# Altium schematic symbol library HW_ADHERENT_SYSCTRL_R1_L4.SchLib: 1634 symbols (part 3 of 31)
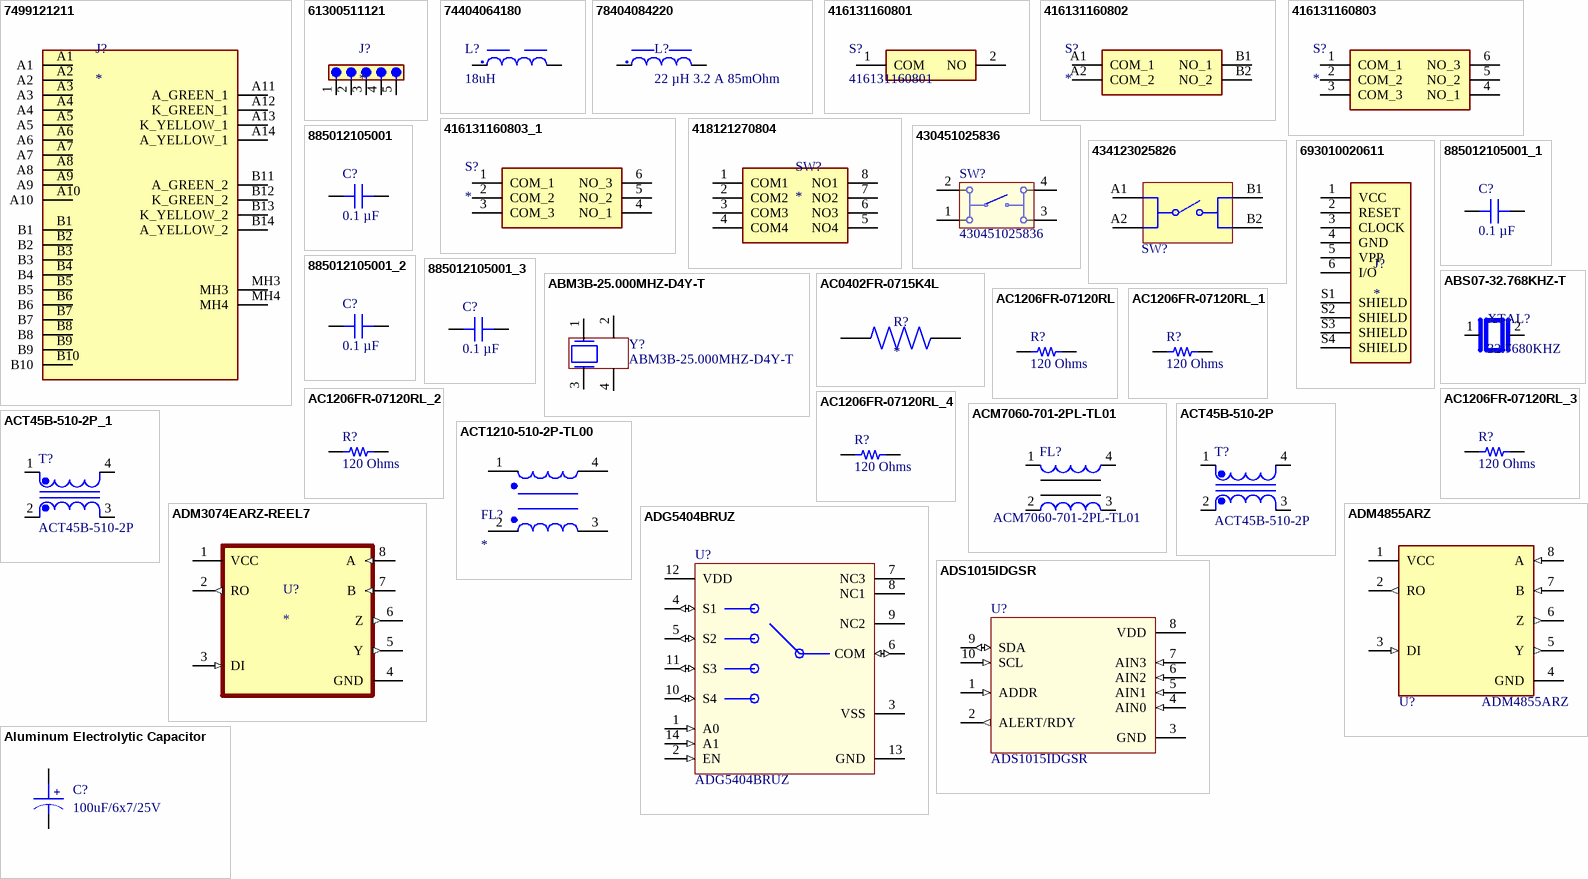
[diagram p52: symbols 7499121211 to Aluminum Electrolytic Capacitor]

## ADM3074EARZ-REEL7
designator U?
Single Transmitter/Receiver RS-422/RS-485 8-Pin SOIC N T/R; Manufacturer: Analog Devices; Manufacturer Part Number: ADM3074EARZ-REEL7; Data Rate: 500Kbps; Number of Receivers: 1; Operating Supply Voltage: 3.3V; Min Supply Voltage: 3V; Max Supply Voltage: 3.6V; Operating Supply Current: 1.5mA; Simplex/Duplex: Full Duplex; Receiver Hysteresis: 100mV; Supplier 1: Digikey; RoHS: Yes; Category: RS-232 / RS-422 / RS-485 Interface ICs; Stock 1: 725; Pricing 1: 1=5.83, 10=5.24, 25=4.954, 100=4.2935, 250=4.07332, 500=3.65498 (USD); Mount: Surface Mount; Case/Package: SOIC; Number of Pins: 8; Min Operating Temperature: -40°C; Max Operating Temperature: 125°C; Packaging: Tape and Reel; Package Quantity: 1000; Number of Transmitters: 1; Logic Function: Receiver; Number of Drivers: 1; Number of Transceivers: 1; Series: -; Supply Current: 1.5mA; Lead Free: Contains Lead; RoHS Compliant: Yes; ComponentLink1URL: http://www.mouser.com/ds/2/609/ADM3070E_3071E_3072E_3073E_3074E_3075E_3076E_3077E-878687.pdf?src-supplier=Mouser; ComponentLink1Description: http://www.mouser.com/ds/2/609/ADM3070E_3071E_3072E_3073E_3074E_3075E_3076E_3077E-878687.pdf?src-supplier=Mouser; ComponentLink2URL: http://components.arrow.com/part/dataview/43007547S8418233N2771?src-supplier=Arrow+Electronics; ComponentLink2Description: http://components.arrow.com/part/dataview/43007547S8418233N2771?src-supplier=Arrow+Electronics; ComponentLink3URL: http://www.analog.com/static/imported-files/data_sheets/ADM3070E_3071E_3072E_3073E_3074E_3075E_3076E_3077E_3078E.pdf?src-supplier=Avnet; ComponentLink3Description: http://www.analog.com/static/imported-files/data_sheets/ADM3070E_3071E_3072E_3073E_3074E_3075E_3076E_3077E_3078E.pdf?src-supplier=Avnet; ComponentLink4URL: http://www.analog.com/media/en/technical-documentation/data-sheets/ADM3070E_3071E_3072E_3073E_3074E_3075E_3076E_3077E_3078E.pdf?src-supplier=Digikey; ComponentLink4Description: http://www.analog.com/media/en/technical-documentation/data-sheets/ADM3070E_3071E_3072E_3073E_3074E_3075E_3076E_3077E_3078E.pdf?src-supplier=Digikey; Supplier Part Number 1: 505-ADM3074EARZ-REEL7CT-ND
footprint SOIC127P600X175-8N
pins: 1 VCC (power), 2 RO (out), 3 DI (in), 4 GND, 5 Y (out), 6 Z (out), 7 B (in), 8 A (in)

## ADM4855ARZ
designator U?, comment Manufacturer Part Number: ADM4855ARZ  (hidden comment: IC TRANSCEIVER FULL 1/1 8SOIC)
1/1 Transceiver Full RS422, RS485 8-SOIC
footprint Analog_Devices_R-8_IPC_B
pins: 1 VCC (power), 2 RO (out), 3 DI (in), 4 GND (power), 5 Y (out), 6 Z (out), 7 B (in), 8 A (in)

## ADS1015IDGSR
designator U?
IC ADC 12BIT SIGMA-DELTA 10VSSOP; Manufacturer: Texas Instruments; Manufacturer Part Number: ADS1015IDGSR; Supplier Part Number: 296-41185-1-ND
footprint VSSOP-10 (Footprint not found)
pins: 1 ADDR (in), 2 ALERT/RDY (out), 3 GND (power), 4 AIN0 (in), 5 AIN1 (in), 6 AIN2 (in), 7 AIN3 (in), 8 VDD (power), 9 SDA (io), 10 SCL (in)

## Aluminum Electrolytic Capacitor
designator C?, comment 100uF/6x7/25V
Aluminum Electrolytic Capacitor,100uF,+/-20%,25V 100mA,6.3X7.7mm,SMD,Lelon; Manufacturer P/N: VEJ101M1ETR-0607; Myir P/N: 20404.80024; PCB Footprint: CE6x6; Part Type: Aluminum Electrolytic Capacitor; Manufacturer: Lelon; Reserve Value: 100uF; Datasheet: VEJ.pdf
footprint E_SMT
footprint CE6x6
pins: 1 P, 2 N
text: +

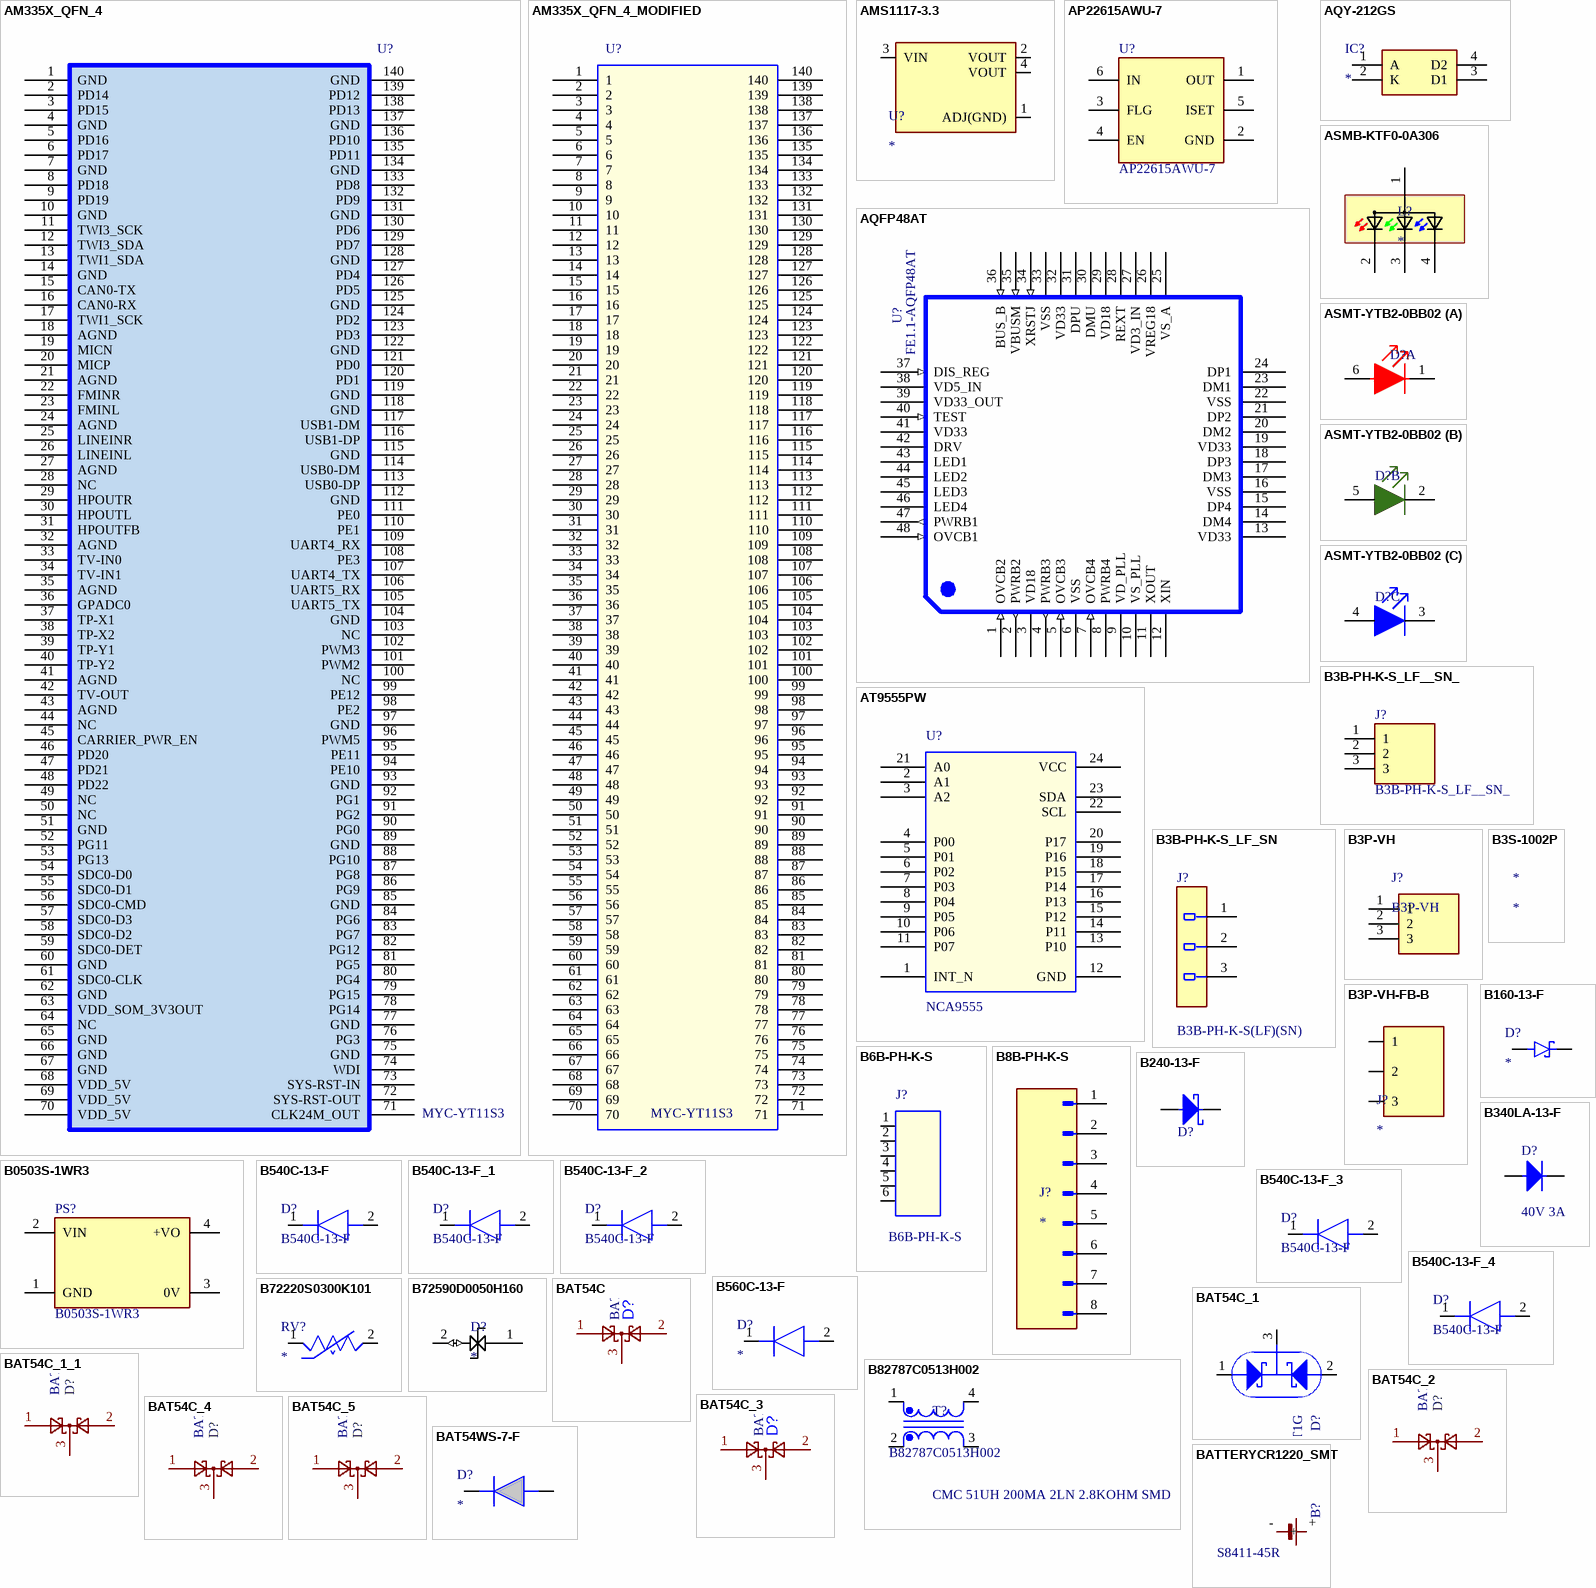
[diagram p4: symbols AM335X_QFN_4 to BATTERYCR1220_SMT]

## AM335X_QFN_4
designator U?, comment MYC-YT11S3
PCB Footprint: youpk37x39_1_00-smd-148
footprint youpk37x39_1_00-smd-148
pins: 1 GND, 2 PD14, 3 PD15, 4 GND, 5 PD16, 6 PD17, 7 GND, 8 PD18, 9 PD19, 10 GND, 11 TWI3_SCK, 12 TWI3_SDA, 13 TWI1_SDA, 14 GND, 15 CAN0-TX, 16 CAN0-RX, 17 TWI1_SCK, 18 AGND, 19 MICN, 20 MICP, 21 AGND, 22 FMINR, 23 FMINL, 24 AGND, 25 LINEINR, 26 LINEINL, 27 AGND, 28 NC, 29 HPOUTR, 30 HPOUTL, 31 HPOUTFB, 32 AGND, 33 TV-IN0, 34 TV-IN1, 35 AGND, 36 GPADC0, 37 TP-X1, 38 TP-X2, 39 TP-Y1, 40 TP-Y2, 41 AGND, 42 TV-OUT, 43 AGND, 44 NC, 45 CARRIER_PWR_EN, 46 PD20, 47 PD21, 48 PD22, 49 NC, 50 NC, 51 GND, 52 PG11, 53 PG13, 54 SDC0-D0, 55 SDC0-D1, 56 SDC0-CMD, 57 SDC0-D3, 58 SDC0-D2, 59 SDC0-DET, 60 GND, 61 SDC0-CLK, 62 GND, 63 VDD_SOM_3V3OUT, 64 NC, 65 GND, 66 GND, 67 GND, 68 VDD_5V, 69 VDD_5V, 70 VDD_5V, 71 CLK24M_OUT, 72 SYS-RST-OUT, 73 SYS-RST-IN, 74 WDI, 75 GND, 76 PG3, 77 GND, 78 PG14, 79 PG15, 80 PG4, 81 PG5, 82 PG12, 83 PG7, 84 PG6, 85 GND, 86 PG9, 87 PG8, 88 PG10, 89 GND, 90 PG0, 91 PG2, 92 PG1, 93 GND, 94 PE10, 95 PE11, 96 PWM5, 97 GND, 98 PE2, 99 PE12, 100 NC, 101 PWM2, 102 PWM3, 103 NC, 104 GND, 105 UART5_TX, 106 UART5_RX, 107 UART4_TX, 108 PE3, 109 UART4_RX, 110 PE1, 111 PE0, 112 GND, 113 USB0-DP, 114 USB0-DM, 115 GND, 116 USB1-DP, 117 USB1-DM, 118 GND, 119 GND, 120 PD1, 121 PD0, 122 GND, 123 PD3, 124 PD2, 125 GND, 126 PD5, 127 PD4, 128 GND, 129 PD7, 130 PD6, 131 GND, 132 PD9, 133 PD8, 134 GND, 135 PD11, 136 PD10, 137 GND, 138 PD13, 139 PD12, 140 GND

## AM335X_QFN_4_MODIFIED
designator U?, comment MYC-YT11S3
PCB Footprint: youpk37x39_1_00-smd-148
footprint youpk37x39_1_00-smd-148
pins: 1, 2, 3, 4, 5, 6, 7, 8, 9, 10, 11, 12, 13, 14, 15, 16, 17, 18, 19, 20, 21, 22, 23, 24, 25, 26, 27, 28, 29, 30, 31, 32, 33, 34, 35, 36, 37, 38, 39, 40, 41, 42, 43, 44, 45, 46, 47, 48, 49, 50, 51, 52, 53, 54, 55, 56, 57, 58, 59, 60, 61, 62, 63, 64, 65, 66, 67, 68, 69, 70, 71, 72, 73, 74, 75, 76, 77, 78, 79, 80, 81, 82, 83, 84, 85, 86, 87, 88, 89, 90, 91, 92, 93, 94, 95, 96, 97, 98, 99, 100, 101, 102, 103, 104, 105, 106, 107, 108, 109, 110, 111, 112, 113, 114, 115, 116, 117, 118, 119, 120, 121, 122, 123, 124, 125, 126, 127, 128, 129, 130, 131, 132, 133, 134, 135, 136, 137, 138, 139, 140

## AMS1117-3.3
designator U?
Linear Voltage Regulator IC Positive Fixed 1 Output 1A SOT-223-3L; Manufacturer: UMW; Supplier: C347222
footprint SOT-223-4_L6.5-W3.5-P2.30-LS7.0-BR
pins: 1 ADJ(GND), 2 VOUT, 3 VIN, 4 VOUT

## AP22615AWU-7
designator U?, comment Manufacturer Part Number: AP22615AWU-7  (hidden comment: IC PWR SWTCH N/P-CHAN 1:1 TSOT26)
Power Switch/Driver 1:1 N/P-Channel 3A TSOT-26; Order Code: Digi: AP22615AWU-7DITR-ND; LCSC Manufacturer Part Number: AP22615AWU-7; LCSC Part Number: C2680357
footprint SOT95P280X100-6N
pins: 1 OUT, 2 GND, 3 FLG, 4 EN, 5 ISET, 6 IN

## AQFP48AT
designator U?, comment FE1.1-AQFP48AT
IC,USB 2.0 HIGH SPEED 4-PORT HUB CONTROLLER,QFN48,SMD,Terminus; PCB Footprint: LQFP48; Myir P/N: 20107.00076; Datasheet: FE1.1-AQFP48AT.pdf; Reserve Value: FE1.1-AQFP48AT; Manufacturer P/N: FE1.1-AQFP48AT; Manufacturer: Terminus; Part Type: Interface
footprint QFP48
footprint LQFP48
pins: 1 OVCB2 (in), 2 PWRB2 (out), 3 VD18 (power), 4 PWRB3 (out), 5 OVCB3 (in), 6 VSS (power), 7 OVCB4 (in), 8 PWRB4, 9 VD_PLL (power), 10 VS_PLL (power), 11 XOUT, 12 XIN, 13 VD33 (power), 14 DM4, 15 DP4, 16 VSS (power), 17 DM3, 18 DP3, 19 VD33 (power), 20 DM2, 21 DP2, 22 VSS (power), 23 DM1, 24 DP1, 25 VS_A (power), 26 VREG18 (power), 27 VD3_IN (power), 28 REXT, 29 VD18 (power), 30 DMU, 31 DPU, 32 VD33 (power), 33 VSS (power), 34 XRSTJ (in), 35 VBUSM (in), 36 BUS_B (in), 37 DIS_REG (in), 38 VD5_IN (power), 39 VD33_OUT (power), 40 TEST (in), 41 VD33 (power), 42 DRV, 43 LED1, 44 LED2, 45 LED3, 46 LED4, 47 PWRB1 (out), 48 OVCB1 (in)

## AQY-212GS
designator IC?
Integrated Circuit; Manufacturer_Name: Panasonic; Manufacturer_Part_Number: AQY-212GS; Datasheet Link: https://www.arrow.com/en/products/aqy212gs/panasonic; Height: 2.3mm; Arrow Part Number: AQY-212GS; Arrow Price/Stock: https://www.arrow.com/en/products/aqy212gs/panasonic?utm_currency=USD&region=nac
footprint SOP254P680X230-4N
pins: 1 A, 2 K, 3 D1, 4 D2

## ASMB-KTF0-0A306
designator L?
Red, Green, Blue _RGB_ 620nm Red, 524nm Green, 471nm Blue LED Indication - Discrete 2V Red, 2.95V Green, 2.85V Blue 4-PLCC; MP: ASMB-KTF0-0A306; MF: Broadcom Limited; Availability: Unavailable; Price: None; Package: PLCC-4 Broadcom; Value: *; SnapEDA_Link: https://www.snapeda.com/parts/ASMB-KTF0-0A306/Broadcom%20Limited/view-part/2703546/?ref=snap
footprint LED_ASMB-KTF0-0A306
pins: 1 A, 2 CRED, 3 CGREEN, 4 CBLUE

## ASMT-YTB2-0BB02
designator D?, comment LED RGB CLEAR 6PLCC SMD  (value not drawn)
Red, Green, Blue (RGB) 622nm Red, 530nm Green, 470nm Blue LED Indication - Discrete 2.1V Red, 3.2V Green, 3.2V Blue 6-SMD, J-Lead; Manufacturer Part Number: ASMT-YTB2-0BB02; Order Code: DIGI: ASMT-YTB2-0BB02
footprint Broadcom_ASMT-YTB2-0BB02_0
part A pins: 1 BLUE C, 6 BLUE A
part B pins: 2 GREEN C, 5 GREEN A
part C pins: 3 RED C, 4 RED A

## AT9555PW
designator U?, comment NCA9555
IC,16-bit I2C-bus I/O port with interrupt,TSSOP24,Novosense; Myir P/N: 20703.80023; Part Type: Interface; Manufacturer: Novosense; Manufacturer P/N: NCA9555; Reserve Value: NCA9555; Datasheet: NCA9555.pdf; PCB Footprint: TSSOP24
footprint TSSOP24
pins: 1 INT_N, 2 A1, 3 A2, 4 P00, 5 P01, 6 P02, 7 P03, 8 P04, 9 P05, 10 P06, 11 P07, 12 GND, 13 P10, 14 P11, 15 P12, 16 P13, 17 P14, 18 P15, 19 P16, 20 P17, 21 A0, 22 SCL, 23 SDA, 24 VCC

## B3B-PH-K-S_LF__SN_
designator J?
Connector; Manufacturer_Name: JST (JAPAN SOLDERLESS TERMINALS); Manufacturer_Part_Number: B3B-PH-K-S(LF)(SN); Datasheet Link: http://www.jst-mfg.com/product/pdf/eng/ePH.pdf; Height: 6mm; LCSC Manufacturer Part Number: B3B-PH-K-S(LF)(SN); Arrow Part Number: B3B-PH-K-S(LF)(SN); Arrow Price/Stock: https://www.arrow.com/en/products/b3b-ph-k-s-lf-sn/jst-manufacturing; LCSC Part Number: C131339
footprint SHDR3W50P0X200_1X3_790X450X600P
pins: 1, 2, 3

## B3B-PH-K-S_LF_SN
designator J?  (value not drawn)
Manufacturer Part Number: B3B-PH-K-S(LF)(SN); Order Code: DIGI : 455-1705-ND; Part Number: B3B-PH-K-S(LF)(SN)
footprint JST_B3B-PH-K-S_LF_SN_0
pins: 1, 2, 3

## B3P-VH
designator J?
Description; Manufacturer_Name: JST; Type: Headers, Male Pins; Copyright: Copyright (C) 2025 Ultra Librarian. All rights reserved.; Manufacturer_Part_Number: B3P-VH; RefDes: RefDes
footprint CONN3X1_B3P-VH_JST
pins: 1, 2, 3

## B3P-VH-FB-B
designator J?
Connector Header Through Hole 3 position 0.156" (3.96mm)
footprint B3P-VH-FB-B
pins: 1, 2, 3

## B3S-1002P
designator *
Switch Tactile N.O. SPST Round Button Gull Wing 0.05A 24VDC 300000Cycles 2.26N SMD T/R; Manufacturer: Omron; Manufacturer Part Number: B3S-1002P; Number of Positions: 2NUMBER; Supplier 1: Digikey; RoHS: Yes; Category: Tactile Switches; Stock 1: 127000; Pricing 1: 1000=0.57994, 3000=0.52722, 5000=0.49207, 10000=0.45692 (USD); Contact Material: 150ConductorMaterial; Contact Plating: 159ConductorMaterial; Lead Free: 5697LeadFree; ComponentLink1URL: https://datasheet.ciiva.com/1701/490609-1701107.pdf?src-supplier=Newark; ComponentLink1Description: https://datasheet.ciiva.com/1701/490609-1701107.pdf?src-supplier=Newark; ComponentLink2URL: https://datasheet.ciiva.com/15198/getdatasheetpartid-174803-15198988.pdf?src-supplier=Verical; ComponentLink2Description: https://datasheet.ciiva.com/15198/getdatasheetpartid-174803-15198988.pdf?src-supplier=Verical; ComponentLink3URL: https://datasheet.ciiva.com/15198/getdatasheetpartid-388874-15198987.pdf?src-supplier=Verical; ComponentLink3Description: https://datasheet.ciiva.com/15198/getdatasheetpartid-388874-15198987.pdf?src-supplier=Verical; ComponentLink4URL: https://datasheet.ciiva.com/30228/en-b3s-30228152.pdf?src-supplier=Onlinecomponents.com; ComponentLink4Description: https://datasheet.ciiva.com/30228/en-b3s-30228152.pdf?src-supplier=Onlinecomponents.com; ComponentLink5URL: https://datasheet.ciiva.com/2899/b3s-1110-2899956.pdf?src-supplier=Digikey; ComponentLink5Description: https://datasheet.ciiva.com/2899/b3s-1110-2899956.pdf?src-supplier=Digikey; ComponentLink6URL: https://datasheet.ciiva.com/2899/b3s-1110-2899957.pdf?src-supplier=Digikey; ComponentLink6Description: https://datasheet.ciiva.com/2899/b3s-1110-2899957.pdf?src-supplier=Digikey; ComponentLink7URL: https://datasheet.ciiva.com/2899/b3s-1110-2899958.pdf?src-supplier=Digikey; ComponentLink7Description: https://datasheet.ciiva.com/2899/b3s-1110-2899958.pdf?src-supplier=Digikey; Supplier Part Number 1: SW837TR-ND

## B6B-PH-K-S
designator J?
Connector,Straight,Top type 6Pin 2.0mm Pitch H=6mm,DIP,JST; PCB Footprint: CONN-B6B-PH-K-S; Myir P/N: 21122.00013; Datasheet: B6B-PH-K-S.pdf; Reserve Value: B6B-PH-K-S; Manufacturer P/N: B6B-PH-K-S; Manufacturer: JST; Part Type: Connector
footprint B6B-PH-K-S
footprint CONN-B6B-PH-K-S
pins: 1, 2, 3, 4, 5, 6

## B8B-PH-K-S
designator J?
2.0 mm pitch/Disconnectable Crimp style connectors; MF: JST; MP: B8B-PH-K-S; SnapEDA_Link: https://www.snapeda.com/parts/B8B-PH-K-S/JST/view-part/?ref=snap; Package: None; Value: *; Check_prices: https://www.snapeda.com/parts/B8B-PH-K-S/JST/view-part/?ref=eda
footprint JST_B8B-PH-K-S
pins: 1, 2, 3, 4, 5, 6, 7, 8

## B160-13-F
designator D?
Diode 60 V 1A Surface Mount SMA; MPN: B160-13-F; Supplier: Digi; B160-FDIDKR-ND
footprint DIODE_B160-13-F
pins: 1 C, 2 A

## B240-13-F
designator D?, comment 40V 2A  (value not drawn)
Diode 40 V 2A Surface Mount SMB; Manufacturer Part Number: B240-13-F; Manufacturer: Diodes Incorporated
footprint Diodes_Inc._SMB_MFG
pins: 1 C, 2 A

## B340LA-13-F
designator D?, comment Rated: 40V 3A  (hidden comment: DIODE SCHOTTKY 40V 3A SMA)
Diode 40 V 3A Surface Mount SMA; Manufacturer Part Number: B340LA-13-F
footprint Diodes_SMA_0
pins: 1 C, 2 A

## B0503S-1WR3
designator PS?
Isolated Module DC DC Converter 1 Output 3.3V 303mA 4.5V - 5.5V Input; Manufacturer_Name: Mornsun Power; Height: 10.41mm; Manufacturer Part Number: B0503S-1WR3
footprint B0503S1WR3
pins: 1 GND, 2 VIN, 3 0V, 4 +VO

## B540C-13-F
designator D?
Manufacturer_Name: Diodes Incorporated; Datasheet Link: https://componentsearchengine.com/Datasheets/2/B540C-13-F.pdf; Height: 2.5mm; Manufacturer_Part_Number: B540C-13-F; Mouser Part Number: 621-B540C-F; Mouser Price/Stock: https://www.mouser.co.uk/ProductDetail/Diodes-Incorporated/B540C-13-F?qs=v2dnQLbuoRZXHN%2FK4ft5%252Bg%3D%3D; Arrow Part Number: B540C-13-F; Arrow Price/Stock: https://www.arrow.com/en/products/b540c-13-f/diodes-incorporated?region=nac
footprint DIOM7959X250N
pins: 1 K, 2 A

## B540C-13-F_1
designator D?, comment B540C-13-F
Manufacturer_Name: Diodes Incorporated; Datasheet Link: https://componentsearchengine.com/Datasheets/2/B540C-13-F.pdf; Height: 2.5mm; Manufacturer_Part_Number: B540C-13-F; Mouser Part Number: 621-B540C-F; Mouser Price/Stock: https://www.mouser.co.uk/ProductDetail/Diodes-Incorporated/B540C-13-F?qs=v2dnQLbuoRZXHN%2FK4ft5%252Bg%3D%3D; Arrow Part Number: B540C-13-F; Arrow Price/Stock: https://www.arrow.com/en/products/b540c-13-f/diodes-incorporated?region=nac
footprint DIOM7959X250N
pins: 1 K, 2 A

## B540C-13-F_2
designator D?, comment B540C-13-F
Manufacturer_Name: Diodes Incorporated; Datasheet Link: https://componentsearchengine.com/Datasheets/2/B540C-13-F.pdf; Height: 2.5mm; Manufacturer_Part_Number: B540C-13-F; Mouser Part Number: 621-B540C-F; Mouser Price/Stock: https://www.mouser.co.uk/ProductDetail/Diodes-Incorporated/B540C-13-F?qs=v2dnQLbuoRZXHN%2FK4ft5%252Bg%3D%3D; Arrow Part Number: B540C-13-F; Arrow Price/Stock: https://www.arrow.com/en/products/b540c-13-f/diodes-incorporated?region=nac
footprint DIOM7959X250N
pins: 1 K, 2 A

## B540C-13-F_3
designator D?, comment B540C-13-F
Manufacturer_Name: Diodes Incorporated; Datasheet Link: https://componentsearchengine.com/Datasheets/2/B540C-13-F.pdf; Height: 2.5mm; Manufacturer_Part_Number: B540C-13-F; Mouser Part Number: 621-B540C-F; Mouser Price/Stock: https://www.mouser.co.uk/ProductDetail/Diodes-Incorporated/B540C-13-F?qs=v2dnQLbuoRZXHN%2FK4ft5%252Bg%3D%3D; Arrow Part Number: B540C-13-F; Arrow Price/Stock: https://www.arrow.com/en/products/b540c-13-f/diodes-incorporated?region=nac
footprint DIOM7959X250N
pins: 1 K, 2 A

## B540C-13-F_4
designator D?, comment B540C-13-F
Manufacturer_Name: Diodes Incorporated; Datasheet Link: https://componentsearchengine.com/Datasheets/2/B540C-13-F.pdf; Height: 2.5mm; Manufacturer_Part_Number: B540C-13-F; Mouser Part Number: 621-B540C-F; Mouser Price/Stock: https://www.mouser.co.uk/ProductDetail/Diodes-Incorporated/B540C-13-F?qs=v2dnQLbuoRZXHN%2FK4ft5%252Bg%3D%3D; Arrow Part Number: B540C-13-F; Arrow Price/Stock: https://www.arrow.com/en/products/b540c-13-f/diodes-incorporated?region=nac
footprint DIOM7959X250N
pins: 1 K, 2 A

## B560C-13-F
designator D?
Diode 60 V 5A Surface Mount SMC; Manufacturer_Name: Diodes Incorporated; Manufacturer_Part_Number: B560C-13-F; Datasheet Link: https://datasheet.lcsc.com/szlcsc/Diodes-Incorporated-B560C-13-F_C85100.pdf; Height: 2.5mm; Mouser Part Number: 621-B560C-F; Mouser Price/Stock: https://www.mouser.co.uk/ProductDetail/Diodes-Incorporated/B560C-13-F?qs=OC0R%252Bhozcm%252BAsjMXklZLIw%3D%3D; Arrow Part Number: B560C-13-F; Arrow Price/Stock: https://www.arrow.com/en/products/b560c-13-f/diodes-incorporated?utm_currency=USD&region=nac
footprint DIOM7959X250N
pins: 1 K, 2 A

## B72220S0300K101
designator RV?
47 V 2 kA Varistor 1 Circuit Through Hole Disc 20mm; MPN: B72220S0300K101; Manufacturer: TDK
footprint VAR_B72220S0300K101
pins: 1, 2

## B72590D0050H160
designator D?
VARISTOR 150V 0402; Manufacturer: TDK EPCOS; Manufacturer Part Number: B72590D0050H160; Supplier 1: Digikey; RoHS: Yes; Category: Varistors; Stock 1: 130000; Pricing 1: 10000=0,04977, 30000=0,04666, 50000=0,04137, 100000=0,04044, 250000=0,03982 (USD); ComponentLink1URL: https://datasheet.octopart.com/B72590D0050H160-EPCOS-datasheet-10468447.pdf?src-supplier=Newark; ComponentLink1Description: https://datasheet.octopart.com/B72590D0050H160-EPCOS-datasheet-10468447.pdf?src-supplier=Newark; ComponentLink2URL: https://en.tdk.eu/inf/75/ds/High_speed_series.pdf?src-supplier=Verical; ComponentLink2Description: https://en.tdk.eu/inf/75/ds/High_speed_series.pdf?src-supplier=Verical; ComponentLink3URL: http://www.farnell.com/datasheets/1706828.pdf?src-supplier=Newark; ComponentLink3Description: http://www.farnell.com/datasheets/1706828.pdf?src-supplier=Newark; ComponentLink4URL: https://en.tdk.eu/inf/75/ds/High_speed_series.pdf?src-supplier=Digikey; ComponentLink4Description: https://en.tdk.eu/inf/75/ds/High_speed_series.pdf?src-supplier=Digikey; ComponentLink5URL: https://www.tdk-electronics.tdk.com/inf/75/ds/High_speed_series.pdf?src-supplier=Digikey; ComponentLink5Description: https://www.tdk-electronics.tdk.com/inf/75/ds/High_speed_series.pdf?src-supplier=Digikey; ComponentLink6URL: https://en.tdk.eu/inf/75/ds/High_speed_series.pdf?src-supplier=Arrow+Electronics; ComponentLink6Description: https://en.tdk.eu/inf/75/ds/High_speed_series.pdf?src-supplier=Arrow+Electronics; ComponentLink7URL: https://en.tdk.eu/inf/75/ds/High_speed_series.pdf?src-supplier=Quest; ComponentLink7Description: https://en.tdk.eu/inf/75/ds/High_speed_series.pdf?src-supplier=Quest; ComponentLink8URL: https://datasheet.octopart.com/B72590D0050H160-EPCOS-datasheet-157245974.pdf?src-supplier=LKR; ComponentLink8Description: https://datasheet.octopart.com/B72590D0050H160-EPCOS-datasheet-157245974.pdf?src-supplier=LKR; ComponentLink9URL: https://en.tdk.eu/inf/75/ds/High_speed_series.pdf?src-supplier=TTI; ComponentLink9Description: https://en.tdk.eu/inf/75/ds/High_speed_series.pdf?src-supplier=TTI; Supplier Part Number 1: 495-3684-2-ND
footprint SOD1005X60N
pins: 1 GND, 2 I/OLINE (io)

## B82787C0513H002
designator T?, comment CMC 51UH 200MA 2LN 2.8KOHM SMD  Manufacturer Part Number: B82787C0513H002
51 µH @ 100 kHz 2 Line Common Mode Choke Surface Mount 2.8 kOhms @ 10 MHz 200mA DCR 1Ohm; Order Code: DIGI: 495-4597-2-ND
footprint EPCOS_COMMON_MODE_CHOKE
pins: 1, 2, 3, 4

## BAT54C
designator D?, comment BAT54C-7-F
DIODE ARRAY SCHOTTKY 30V SOT23-3; Manufacturer: Diodes Incorporated; Value: BAT54C-7-F; Footprint: Package_TO_SOT_SMD:SOT-23; Manufacturer Part Number: BAT54C-7-F; Supplier Part Number: BAT54C-FDICT-ND
footprint SOT23-3
pins: 1, 2, 3

## BAT54C_1
designator D?, comment LBAT54CLT1G
Diode Dual Schottky,30V,200mA,SMD,SOT-23,LRC; Myir P/N: 20701.00054; PCB Footprint: SOT-23; Part Type: Diode; Manufacturer: LRC; Manufacturer P/N: LBAT54CLT1G; Reserve Value: LBAT54CLT1G; Datasheet: LBAT54CLT1G.pdf
footprint SOT23T02
footprint SOT-23
pins: 1 ANODE, 2 NC, 3 CATHODE

## BAT54C_1_1
designator D?, comment BAT54C-7-F
DIODE ARRAY SCHOTTKY 30V SOT23-3; Manufacturer: Diodes Incorporated; Footprint: Package_TO_SOT_SMD:SOT-23; Manufacturer Part Number: BAT54C-7-F; Supplier Part Number: BAT54C-FDICT-ND; Value: BAT54C-7-F
footprint SOT23-3
pins: 1, 2, 3

## BAT54C_2
designator D?, comment BAT54C-7-F
DIODE ARRAY SCHOTTKY 30V SOT23-3; Manufacturer: Diodes Incorporated; Value: BAT54C-7-F; Footprint: Package_TO_SOT_SMD:SOT-23; Manufacturer Part Number: BAT54C-7-F; Supplier Part Number: BAT54C-FDICT-ND
footprint SOT23-3
pins: 1, 2, 3

## BAT54C_3
designator D?, comment BAT54C-7-F
DIODE ARRAY SCHOTTKY 30V SOT23-3; Manufacturer: Diodes Incorporated; Value: BAT54C-7-F; Footprint: Package_TO_SOT_SMD:SOT-23; Manufacturer Part Number: BAT54C-7-F; Supplier Part Number: BAT54C-FDICT-ND
footprint SOT23-3
pins: 1, 2, 3

## BAT54C_4
designator D?, comment BAT54C-7-F
DIODE ARRAY SCHOTTKY 30V SOT23-3; Manufacturer: Diodes Incorporated; Value: BAT54C-7-F; Footprint: Package_TO_SOT_SMD:SOT-23; Manufacturer Part Number: BAT54C-7-F; Supplier Part Number: BAT54C-FDICT-ND
footprint SOT23-3
pins: 1, 2, 3

## BAT54C_5
designator D?, comment BAT54C-7-F
DIODE ARRAY SCHOTTKY 30V SOT23-3; Manufacturer: Diodes Incorporated; Value: BAT54C-7-F; Footprint: Package_TO_SOT_SMD:SOT-23; Manufacturer Part Number: BAT54C-7-F; Supplier Part Number: BAT54C-FDICT-ND
footprint SOT23-3
pins: 1, 2, 3

## BAT54WS-7-F
designator D?
Diode 30 V 100mA Surface Mount SOD-323; MPN: BAT54WS-7-F; Supplier: C124205
footprint SOD2513X120N
pins: 1 K, 2 A

## BATTERYCR1220_SMT
designator B?, comment S8411-45R
BATT HOLDER COIN 12MM 1 CELL SMD; Manufacturer: Harwin Inc.; Value: S8411-45R; Manufacturer Part Number: S8411-45R; Supplier Part Number: 952-1745-1-ND
footprint BATT_S8411-45R (S8411-45R)
pins: +, -

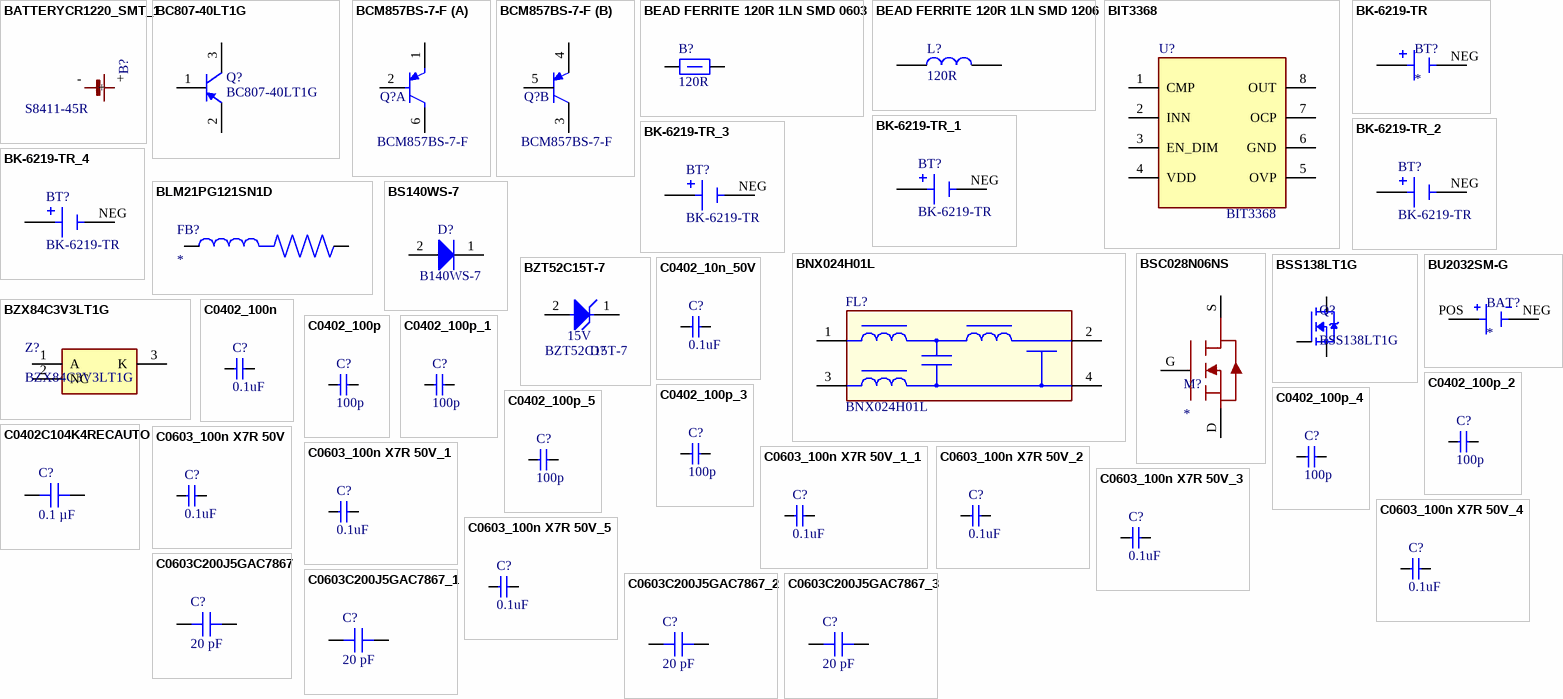
[diagram p5: symbols BATTERYCR1220_SMT_1 to C0603C200J5GAC7867_3]

## BATTERYCR1220_SMT_1
designator B?, comment S8411-45R
BATT HOLDER COIN 12MM 1 CELL SMD; Manufacturer: Harwin Inc.; Value: S8411-45R; Manufacturer Part Number: S8411-45R
footprint BATT_S8411-45R (S8411-45R)
pins: +, -

## BC807-40LT1G
designator Q?
General Purpose Transistor, PNP Silicon, 3-Pin SOT-23, Pb-Free, Tape and Reel; Manufacturer: ON Semiconductor; Max Power Dissipation: 300mW; hFE Min: 250; Number of Elements: 1; Collector Emitter Voltage (VCEO): 45V; Frequency: 100MHz; Emitter Base Voltage (VEBO): 5V; Max Collector Current: 500mA; Collector Base Voltage (VCBO): 50V; Collector Emitter Saturation Voltage: -700mV; Element Configuration: Single; Collector-emitter Voltage-Max: 700mV; ComponentLink3URL: http://www.onsemi.cn/pub_link/Collateral/318-08.PDF; ComponentLink1URL: http://www.onsemi.com/; ComponentLink2URL: http://www.onsemi.com/pub_link/Collateral/BC807-16LT1-D.PDF; ComponentLink1Description: Manufacturer URL; ComponentLink3Description: Package Specification; ComponentLink2Description: Datasheet; Supplier 1: Digi-Key; Supplier Part Number 1: BC807-40LT1GOSCT-ND; Manufacturer Part Number: BC807-40LT1G; RoHS: Yes; Category: BJTs; Pricing 1: 1=0,21000, 10=0,19600, 100=0,10690, 500=0,06576, 1000=0,04484 (USD); Case/Package: SOT-23-3; Number of Pins: 3; Contact Plating: Tin,Matte; Min Operating Temperature: -55°C; Max Operating Temperature: 150°C; Package Quantity: 1; Packaging: Tape and Reel; Polarity: PNP; Transition Frequency: 100MHz; Collector Emitter Breakdown Voltage: 45V; Power Dissipation: 300mW; Gain Bandwidth Product: 100MHz; Series: BC807-40L; Max Breakdown Voltage: 45V; Max Frequency: 100MHz; Length: 2.9mm; Width: 1.3mm; Height: 0.94mm; Radiation Hardening: No; Lead Free: Lead Free; Halogen Free: Halogen Free; RoHS Compliant: Yes; REACH SVHC: No SVHC; ComponentLink4URL: https://datasheet.ciiva.com/15138/getdatasheetpartid-38541-15138619.pdf?src-supplier=Verical; ComponentLink4Description: https://datasheet.ciiva.com/15138/getdatasheetpartid-38541-15138619.pdf?src-supplier=Verical; ComponentLink5URL: https://datasheet.ciiva.com/976/bc807-16lt1-d-976422.pdf?src-supplier=Digi-Key; ComponentLink5Description: https://datasheet.ciiva.com/976/bc807-16lt1-d-976422.pdf?src-supplier=Digi-Key; ComponentLink6URL: https://datasheet.ciiva.com/976/bc807-16lt1-d-976423.pdf?src-supplier=Digi-Key; ComponentLink6Description: https://datasheet.ciiva.com/976/bc807-16lt1-d-976423.pdf?src-supplier=Digi-Key; ComponentLink7URL: https://datasheet.ciiva.com/976/bc807-16lt1-d-976424.pdf?src-supplier=Digi-Key; ComponentLink7Description: https://datasheet.ciiva.com/976/bc807-16lt1-d-976424.pdf?src-supplier=Digi-Key; ComponentLink8URL: https://datasheet.ciiva.com/22633/1575992-22633676.pdf?src-supplier=Element14; ComponentLink8Description: https://datasheet.ciiva.com/22633/1575992-22633676.pdf?src-supplier=Element14; ComponentLink9URL: https://datasheet.ciiva.com/16213/bc807-16lt1-d-16213981.pdf?src-supplier=Future+Electronics; ComponentLink9Description: https://datasheet.ciiva.com/16213/bc807-16lt1-d-16213981.pdf?src-supplier=Future+Electronics; ComponentLink10URL: https://datasheet.ciiva.com/22633/1575992-22633677.pdf?src-supplier=Element14; ComponentLink10Description: https://datasheet.ciiva.com/22633/1575992-22633677.pdf?src-supplier=Element14; ComponentLink11URL: https://datasheet.ciiva.com/25917/bc807-16lt1-d-25917198.pdf?src-supplier=Avnet+Europe; ComponentLink11Description: https://datasheet.ciiva.com/25917/bc807-16lt1-d-25917198.pdf?src-supplier=Avnet+Europe; LCSC Part Number: BC807-40LT1G
footprint ONSC-SOT-23-3-318-08_V
pins: 1 B, 2 E, 3 C

## BCM857BS-7-F
designator Q?, comment Manufacturer Part Number: BCM857BS-7-F  (hidden comment: TRANS 2PNP 45V 0.1A SOT36)
Bipolar (BJT) Transistor Array 2 PNP (Dual) 45V 100mA 100MHz 200mW Surface Mount SOT-363; Order Code: DIGI: BCM857BS-7-FDITR-ND
footprint Diodes_Inc_SOT363_IPC_A
footprint Diodes_Inc_SOT363_IPC_B
footprint Diodes_Inc_SOT363_IPC_C
footprint Diodes_Inc_SOT363_MFG
part A pins: 1 E1, 2 B1, 6 C1
part B pins: 3 C2, 4 E2, 5 B2

## BEAD FERRITE 120R 1LN SMD 0603
designator B?  value 120R  (hidden comment: BEAD FERRITE 120R 1LN SMD 0603)
Manufacturer: MURATA; Manufacturer Part Name: BLM18PG121SN1D; Code: 3030007; Family: BEAD; Supplier: Digikey; Supplier No: 490-1037-2-ND; Package Reference: F1206
footprint F0603 (WE-CBF SMD EMI Suppression Ferrite Bead)
pins: 1, 2

## BEAD FERRITE 120R 1LN SMD 1206
designator L?  value 120R  (hidden comment: BEAD FERRITE 120R 1LN SMD 1206)
Manufacturer: LAIRD; Manufacturer Part Name: LI1206H121R-10; Code: 3030001; Family: BEAD; Supplier: Digikey; Supplier No: 240-2401-2-ND; Package Reference: F1206
footprint F1206N (Chip Inductor, Body 3.2x1.6mm, IPC Medium Density)
pins: 1, 2

## BIT3368
designator U?, comment Manufacturer Part Number: BIT3368  (hidden comment: BIT3368 LED DRIVER CONTROLLER)
High Performance PWM Controller; Manufacturer: BITEK; LSCS Part Number: C5252694
footprint SOP-8_L4.9-W3.9-P1.27-LS6.0-BL
pins: 1 CMP, 2 INN, 3 EN_DIM, 4 VDD, 5 OVP, 6 GND, 7 OCP, 8 OUT

## BK-6219-TR
designator BT?
CR2025 BATTERY RETAINER, SMD; MP: BK-6219-TR; Package: None; Price: None; Value: *; Availability: Unavailable
footprint BAT_BK-6219-TR
pins: NEG, S+1 POS, S+2 POS

## BK-6219-TR_1
designator BT?, comment BK-6219-TR
CR2025 BATTERY RETAINER, SMD; Package: None; Price: None; Value: *; MP: BK-6219-TR; Availability: Unavailable
footprint BAT_BK-6219-TR
pins: NEG, S+1 POS, S+2 POS

## BK-6219-TR_2
designator BT?, comment BK-6219-TR
CR2025 BATTERY RETAINER, SMD; Package: None; Price: None; Value: *; MP: BK-6219-TR; Availability: Unavailable
footprint BAT_BK-6219-TR
pins: NEG, S+1 POS, S+2 POS

## BK-6219-TR_3
designator BT?, comment BK-6219-TR
CR2025 BATTERY RETAINER, SMD; Package: None; Price: None; Value: *; MP: BK-6219-TR; Availability: Unavailable
footprint BAT_BK-6219-TR
pins: NEG, S+1 POS, S+2 POS

## BK-6219-TR_4
designator BT?, comment BK-6219-TR
CR2025 BATTERY RETAINER, SMD; Package: None; Price: None; Value: *; MP: BK-6219-TR; Availability: Unavailable
footprint BAT_BK-6219-TR
pins: NEG, S+1 POS, S+2 POS

## BLM21PG121SN1D
designator FB?
120 Ohms @ 100 MHz 1 Power Line Ferrite Bead 0805 (2012 Metric) 3A 30mOhm; MPN: BLM21PG121SN1D; Supplier: Digi; 490-5986-6-ND
footprint BEADC2012X105N/
pins: 1, 2

## BNX024H01L
designator FL?, comment Manufacturer Part Number: BNX024H01L  (hidden comment: FILTER LC 4.7UF SMD)
LC EMI Filter 5th Order Low Pass 2 Channel C = 4.7µF 20 A 4-SMD, No Lead; Order Code: Digi: 490-7833-2-ND; LCSC Manufacturer Part Number: BNX024H01L; LCSC Part Number: C124739
footprint Murata_BNX02_MFG
pins: 1 B, 2 CB, 3 PSG, 4 CG

## BS140WS-7
designator D?, comment Manufacturer Part Number: B140WS-7  (hidden comment: DIODE SCHOTTKY 40V 1A SOD323)
Diode 40 V 1A Surface Mount SOD-323; Order Code: Digi: B140WS-7DITR-ND; LCSC Manufacturer Part Number: B140WS-7; LCSC Part Number: C95171
footprint SOD-323_L1.8-W1.3-LS2.5-RD
pins: 1 K, 2 A

## BSC028N06NS
designator M?
MOSFET'ler N-Ch 60V 100A TDSON-8 OptiMOS 3
footprint BSC028N06NS
pins: D, G, S

## BSS138LT1G
designator Q?
MOSFET N-CH 50V 200mA SOT-23; Manufacturer: ON Semiconductor; Gate to Source Voltage (Vgs): 5V; Rds On Max: 3.5R; Input Capacitance: 50pF; Max Power Dissipation: 225mW; Turn-Off Delay Time: 20ns; Element Configuration: Single; Polarity: N-CHANNEL; Number of Channels: 1; Supplier 1: Digikey; Manufacturer Part Number: BSS138LT1G; RoHS: Yes; Category: MOSFETs; Stock 1: 402000; Pricing 1: 3000=0.06451, 6000=0.05984, 9000=0.04962, 30000=0.04875, 75000=0.04378, 150000=0.03795 (USD); Case/Package: SOT-23-3; Number of Pins: 3; Weight: 0.001058oz; Min Operating Temperature: -55°C; Max Operating Temperature: 150°C; Continuous Drain Current (ID): 200mA; Package Quantity: 3000; Packaging: Tape and Reel; Drain to Source Resistance: 3.5R; Turn-On Delay Time: 20ns; Voltage Rating (DC): 50V; Current Rating: 200mA; Series: -; Length: 2.9mm; Width: 1.3mm; Height: 0.94mm; RoHS Compliant: Yes; Lead Free: Lead Free; Halogen Free: Halogen Free; ComponentLink1URL: https://datasheet.ciiva.com/22641/1596366-22641636.pdf?src-supplier=Element14; ComponentLink1Description: https://datasheet.ciiva.com/22641/1596366-22641636.pdf?src-supplier=Element14; ComponentLink2URL: https://datasheet.ciiva.com/1190/1596366-1190136.pdf?src-supplier=Element14; ComponentLink2Description: https://datasheet.ciiva.com/1190/1596366-1190136.pdf?src-supplier=Element14; ComponentLink3URL: https://datasheet.ciiva.com/1190/1596366-1190137.pdf?src-supplier=Element14; ComponentLink3Description: https://datasheet.ciiva.com/1190/1596366-1190137.pdf?src-supplier=Element14; ComponentLink4URL: https://datasheet.ciiva.com/14553/70099493-14553829.pdf?src-supplier=Allied+Electronics; ComponentLink4Description: https://datasheet.ciiva.com/14553/70099493-14553829.pdf?src-supplier=Allied+Electronics; ComponentLink5URL: https://datasheet.ciiva.com/8115/bss138lt1-d-8115295.pdf?src-supplier=Avnet; ComponentLink5Description: https://datasheet.ciiva.com/8115/bss138lt1-d-8115295.pdf?src-supplier=Avnet; ComponentLink6URL: https://datasheet.ciiva.com/15198/getdatasheetpartid-110266-15198908.pdf?src-supplier=Verical; ComponentLink6Description: https://datasheet.ciiva.com/15198/getdatasheetpartid-110266-15198908.pdf?src-supplier=Verical; Supplier Part Number 1: BSS138LT1GOSTR-ND
footprint SOT95P237X111-3N
pins: 1 G, 2 S, 3 D

## BU2032SM-G
designator BAT?
Battery Holder Coin 20MM SMD; Manufacturer: Memory Protection Devices; Manufacturer Part Number: BU2032SM-G; Number of Cells: 1; Number of Contacts: 2NUMBER; Supplier 1: Digikey; RoHS: Yes; Category: Uncategorized; Stock 1: 17897; Pricing 1: 400=0.81163, 800=0.76195, 1200=0.71225, 2800=0.646, 10000=0.5963 (USD); Mount: Surface Mount,PCB; Case/Package: SMD/SMT; Contact Material: 153,157ConductorMaterial; Min Operating Temperature: -40°C; Max Operating Temperature: 315°C; Termination: SMD/SMT; Series: -; Packaging: Cut Tape; Height: 5.3mm; ComponentLink1URL: https://datasheet.ciiva.com/7613/bu2032sm-g-datasheet-7613472.pdf?src-supplier=Digikey; ComponentLink1Description: https://datasheet.ciiva.com/7613/bu2032sm-g-datasheet-7613472.pdf?src-supplier=Digikey; Supplier Part Number 1: BU2032SM-GTR-ND
footprint BAT_BU2032SM-G
pins: NEG, POS

## BZT52C15T-7
designator D?, comment Zener Voltage: 15V  Manufacturer Part Number: BZT52C15T-7  (hidden comment: TVS DIODE 20.5VWM 33.2VC DO214AC)
Zener Diode 15 V 300 mW ±6% Surface Mount SOD-523; Order Code: DIGI: BZT52C15T-7DITR-ND
footprint SOD_523
pins: 1 C, 2 A

## BZX84C3V3LT1G
designator Z?
Zener Diode; Manufacturer_Name: onsemi; Datasheet Link: http://www.onsemi.com/pub/Collateral/BZX84C2V4LT1-D.PDF; Height: 1.11mm; Manufacturer_Part_Number: BZX84C3V3LT1G; Mouser Part Number: 863-BZX84C3V3LT1G; Mouser Price/Stock: https://www.mouser.co.uk/ProductDetail/onsemi/BZX84C3V3LT1G?qs=vNc2DXHODiIKL62%252Be6h8Pg%3D%3D; Arrow Part Number: BZX84C3V3LT1G; Arrow Price/Stock: https://www.arrow.com/en/products/bzx84c3v3lt1g/on-semiconductor?region=europe
footprint SOT96P237X111-3N
pins: 1 A, 2 NC, 3 K

## C0402_10n_50V
designator C?, comment 0.1uF
CAP CER 0.1UF 50V X7R 0402; Manufacturer: TDK Corporation; Manufacturer Part Number: C1005X7R1H104K050BB; Position: C?; Supplier Part Number: 445-5932-1-ND; Value: 0.1uF
footprint 0402_C (MODIFIED BY DN_MH - 16JAN17; CHECKED BY DN_TN - 18JAN17)
pins: 1, 2

## C0402_100n
designator C?, comment 0.1uF
CAP CER 0.1UF 50V X7R 0402; Manufacturer: TDK Corporation; Manufacturer Part Number: C1005X7R1H104K050BB; Position: C?; Value: 0.1uF; Supplier Part Number: 445-5932-1-ND
footprint 0402_C (MODIFIED BY DN_MH - 16JAN17; CHECKED BY DN_TN - 18JAN17)
pins: 1, 2

## C0402_100p
designator C?, comment 100p
CAP CER 100PF 50V C0G 0402; Manufacturer: TDK Corporation; Manufacturer Part Number: C1005C0G1H101K050BA; Value: 100p; Supplier Part Number: 445-13760-1-ND
footprint 0402_C (MODIFIED BY DN_MH - 16JAN17; CHECKED BY DN_TN - 18JAN17)
pins: 1, 2

## C0402_100p_1
designator C?, comment 100p
CAP CER 100PF 50V C0G 0402; Manufacturer: TDK Corporation; Manufacturer Part Number: C1005C0G1H101K050BA; Value: 100p; Supplier Part Number: 445-13760-1-ND
footprint 0402_C (MODIFIED BY DN_MH - 16JAN17; CHECKED BY DN_TN - 18JAN17)
pins: 1, 2

## C0402_100p_2
designator C?, comment 100p
CAP CER 100PF 50V C0G 0402; Manufacturer: TDK Corporation; Manufacturer Part Number: C1005C0G1H101K050BA; Value: 100p; Supplier Part Number: 445-13760-1-ND
footprint 0402_C (MODIFIED BY DN_MH - 16JAN17; CHECKED BY DN_TN - 18JAN17)
pins: 1, 2

## C0402_100p_3
designator C?, comment 100p
CAP CER 100PF 50V C0G 0402; Manufacturer: TDK Corporation; Manufacturer Part Number: C1005C0G1H101K050BA; Value: 100p; Supplier Part Number: 445-13760-1-ND
footprint 0402_C (MODIFIED BY DN_MH - 16JAN17; CHECKED BY DN_TN - 18JAN17)
pins: 1, 2

## C0402_100p_4
designator C?, comment 100p
CAP CER 100PF 50V C0G 0402; Manufacturer: TDK Corporation; Manufacturer Part Number: C1005C0G1H101K050BA; Value: 100p; Supplier Part Number: 445-13760-1-ND
footprint 0402_C (MODIFIED BY DN_MH - 16JAN17; CHECKED BY DN_TN - 18JAN17)
pins: 1, 2

## C0402_100p_5
designator C?, comment 100p
CAP CER 100PF 50V C0G 0402; Manufacturer: TDK Corporation; Manufacturer Part Number: C1005C0G1H101K050BA; Value: 100p; Supplier Part Number: 445-13760-1-ND
footprint 0402_C (MODIFIED BY DN_MH - 16JAN17; CHECKED BY DN_TN - 18JAN17)
pins: 1, 2

## C0402C104K4RECAUTO
designator C?, comment 0.1 µF
CAP CER 0402 0.1UF 16V X7R 10%; Part Number: C0402C104K4RECAUTO; manufacturer: KEMET; Value: 0.1 µF; Applications: Automotive, ESD Protection; Capacitance: 0.1 µF; componentlink1description: Datasheet; componentlink1url: https://api.kemet.com/component-edge/download/datasheet/C0402C104K4RECAUTO.pdf; componentlink2description: DigiKey Link; componentlink2url: https://www.digikey.com/en/products/detail/kemet/C0402C104K4RECAUTO/8563695; Device Package: 0402 (1005 Metric); lastupdated: 2/9/2024 8:04:38 PM; Lifecycle Status: Active; Minimum Order: 1; Mounting Type: Surface Mount, MLCC; Operating Temperature: -55°C ~ 125°C; Package / Case: 0402 (1005 Metric); packaging: TapeAndReel; partid: 1731; Part Status: Active; price: 0.01; Ratings: AEC-Q200; series: ESD SMD Auto X7R; Size / Dimension: 0.039" L x 0.020" W (1.00mm x 0.50mm); Supplier 1: DigiKey; Supplier Part Number 1: 399-17167-1-ND; Temperature Coefficient: X7R; Thickness (Max): 0.022" (0.55mm); Tolerance: ±10%; Voltage - Rated: 16V
footprint CAP 0402_1005
pins: 1, 2

## C0603_100n X7R 50V
designator C?, comment 0.1uF
CAP CER 0.1UF 50V X7R 0402; Manufacturer: TDK Corporation; Manufacturer Part Number: C1005X7R1H104K050BB; Value: 0.1uF; Supplier Part Number: 445-5932-1-ND
footprint 0603_C (CHECKED BY DN_TN - 19FEB19)
footprint 0402_C
pins: 1, 2

## C0603_100n X7R 50V_1
designator C?, comment 0.1uF
CAP CER 0.1UF 50V X7R 0402; Manufacturer: TDK Corporation; Manufacturer Part Number: C1005X7R1H104K050BB; Value: 0.1uF; Supplier Part Number: 445-5932-1-ND
footprint 0603_C (CHECKED BY DN_TN - 19FEB19)
footprint 0402_C
pins: 1, 2

## C0603_100n X7R 50V_1_1
designator C?, comment 0.1uF
CAP CER 0.1UF 50V X7R 0402; Manufacturer: TDK Corporation; Manufacturer Part Number: C1005X7R1H104K050BB; Value: 0.1uF; Supplier Part Number: 445-5932-1-ND
footprint 0603_C (CHECKED BY DN_TN - 19FEB19)
footprint 0402_C
pins: 1, 2

## C0603_100n X7R 50V_2
designator C?, comment 0.1uF
CAP CER 0.1UF 50V X7R 0402; Manufacturer: TDK Corporation; Manufacturer Part Number: C1005X7R1H104K050BB; Value: 0.1uF; Supplier Part Number: 445-5932-1-ND
footprint 0402_C (MODIFIED BY DN_MH - 16JAN17; CHECKED BY DN_TN - 18JAN17)
pins: 1, 2

## C0603_100n X7R 50V_3
designator C?, comment 0.1uF
CAP CER 0.1UF 50V X7R 0402; Manufacturer: TDK Corporation; Manufacturer Part Number: C1005X7R1H104K050BB; Value: 0.1uF; Supplier Part Number: 445-5932-1-ND
footprint 0603_C (CHECKED BY DN_TN - 19FEB19)
footprint 0402_C
pins: 1, 2

## C0603_100n X7R 50V_4
designator C?, comment 0.1uF
CAP CER 0.1UF 50V X7R 0402; Manufacturer: TDK Corporation; Manufacturer Part Number: C1005X7R1H104K050BB; Value: 0.1uF; Supplier Part Number: 445-5932-1-ND
footprint 0603_C (CHECKED BY DN_TN - 19FEB19)
footprint 0402_C
pins: 1, 2

## C0603_100n X7R 50V_5
designator C?, comment 0.1uF
CAP CER 0.1UF 50V X7R 0402; Manufacturer: TDK Corporation; Manufacturer Part Number: C1005X7R1H104K050BB; Value: 0.1uF; Supplier Part Number: 445-5932-1-ND
footprint 0603_C (CHECKED BY DN_TN - 19FEB19)
footprint 0402_C
pins: 1, 2

## C0603C200J5GAC7867
designator C?, comment 20 pF
CAP CER 20PF 50V C0G/NP0 0603; Part Number: C0603C200J5GAC7867; manufacturer: KEMET; Temperature Coefficient: C0G, NP0; Tolerance: ±5%; Value: 20 pF; Applications: General Purpose; Capacitance: 20 pF; componentlink1description: Datasheet; componentlink1url: https://api.kemet.com/component-edge/download/datasheet/C0603C200J5GACTU.pdf; componentlink2description: DigiKey Link; componentlink2url: https://www.digikey.com/en/products/detail/kemet/C0603C200J5GAC7867/2200143; Device Package: 0603 (1608 Metric); Features: Low ESL; lastupdated: 2/9/2024 8:09:56 PM; Lifecycle Status: Active; Minimum Order: 1; Mounting Type: Surface Mount, MLCC; Operating Temperature: -55°C ~ 125°C; Package / Case: 0603 (1608 Metric); packaging: TapeAndReel; partid: 35070; Part Status: Active; price: 0.04; series: SMD Comm C0G; Size / Dimension: 0.063" L x 0.031" W (1.60mm x 0.80mm); Supplier 1: DigiKey; Supplier Part Number 1: 399-C0603C200J5GAC7867CT-ND; Thickness (Max): 0.034" (0.87mm); Voltage - Rated: 50V
footprint CAP 0603_1608
pins: 1, 2

## C0603C200J5GAC7867_1
designator C?, comment 20 pF
CAP CER 20PF 50V C0G/NP0 0603; Part Number: C0603C200J5GAC7867; manufacturer: KEMET; Temperature Coefficient: C0G, NP0; Tolerance: ±5%; Value: 20 pF; Applications: General Purpose; Capacitance: 20 pF; componentlink1description: Datasheet; componentlink1url: https://api.kemet.com/component-edge/download/datasheet/C0603C200J5GACTU.pdf; componentlink2description: DigiKey Link; componentlink2url: https://www.digikey.com/en/products/detail/kemet/C0603C200J5GAC7867/2200143; Device Package: 0603 (1608 Metric); Features: Low ESL; lastupdated: 2/9/2024 8:09:56 PM; Lifecycle Status: Active; Minimum Order: 1; Mounting Type: Surface Mount, MLCC; Operating Temperature: -55°C ~ 125°C; Package / Case: 0603 (1608 Metric); packaging: TapeAndReel; partid: 35070; Part Status: Active; price: 0.04; series: SMD Comm C0G; Size / Dimension: 0.063" L x 0.031" W (1.60mm x 0.80mm); Supplier 1: DigiKey; Supplier Part Number 1: 399-C0603C200J5GAC7867CT-ND; Thickness (Max): 0.034" (0.87mm); Voltage - Rated: 50V
footprint CAP 0603_1608
pins: 1, 2

## C0603C200J5GAC7867_2
designator C?, comment 20 pF
CAP CER 20PF 50V C0G/NP0 0603; Part Number: C0603C200J5GAC7867; manufacturer: KEMET; Temperature Coefficient: C0G, NP0; Tolerance: ±5%; Value: 20 pF; Applications: General Purpose; Capacitance: 20 pF; componentlink1description: Datasheet; componentlink1url: https://api.kemet.com/component-edge/download/datasheet/C0603C200J5GACTU.pdf; componentlink2description: DigiKey Link; componentlink2url: https://www.digikey.com/en/products/detail/kemet/C0603C200J5GAC7867/2200143; Device Package: 0603 (1608 Metric); Features: Low ESL; lastupdated: 2/9/2024 8:09:56 PM; Lifecycle Status: Active; Minimum Order: 1; Mounting Type: Surface Mount, MLCC; Operating Temperature: -55°C ~ 125°C; Package / Case: 0603 (1608 Metric); packaging: TapeAndReel; partid: 35070; Part Status: Active; price: 0.04; series: SMD Comm C0G; Size / Dimension: 0.063" L x 0.031" W (1.60mm x 0.80mm); Supplier 1: DigiKey; Supplier Part Number 1: 399-C0603C200J5GAC7867CT-ND; Thickness (Max): 0.034" (0.87mm); Voltage - Rated: 50V
footprint CAP 0603_1608
pins: 1, 2

## C0603C200J5GAC7867_3
designator C?, comment 20 pF
CAP CER 20PF 50V C0G/NP0 0603; Part Number: C0603C200J5GAC7867; manufacturer: KEMET; Temperature Coefficient: C0G, NP0; Tolerance: ±5%; Value: 20 pF; Applications: General Purpose; Capacitance: 20 pF; componentlink1description: Datasheet; componentlink1url: https://api.kemet.com/component-edge/download/datasheet/C0603C200J5GACTU.pdf; componentlink2description: DigiKey Link; componentlink2url: https://www.digikey.com/en/products/detail/kemet/C0603C200J5GAC7867/2200143; Device Package: 0603 (1608 Metric); Features: Low ESL; lastupdated: 2/9/2024 8:09:56 PM; Lifecycle Status: Active; Minimum Order: 1; Mounting Type: Surface Mount, MLCC; Operating Temperature: -55°C ~ 125°C; Package / Case: 0603 (1608 Metric); packaging: TapeAndReel; partid: 35070; Part Status: Active; price: 0.04; series: SMD Comm C0G; Size / Dimension: 0.063" L x 0.031" W (1.60mm x 0.80mm); Supplier 1: DigiKey; Supplier Part Number 1: 399-C0603C200J5GAC7867CT-ND; Thickness (Max): 0.034" (0.87mm); Voltage - Rated: 50V
footprint CAP 0603_1608
pins: 1, 2

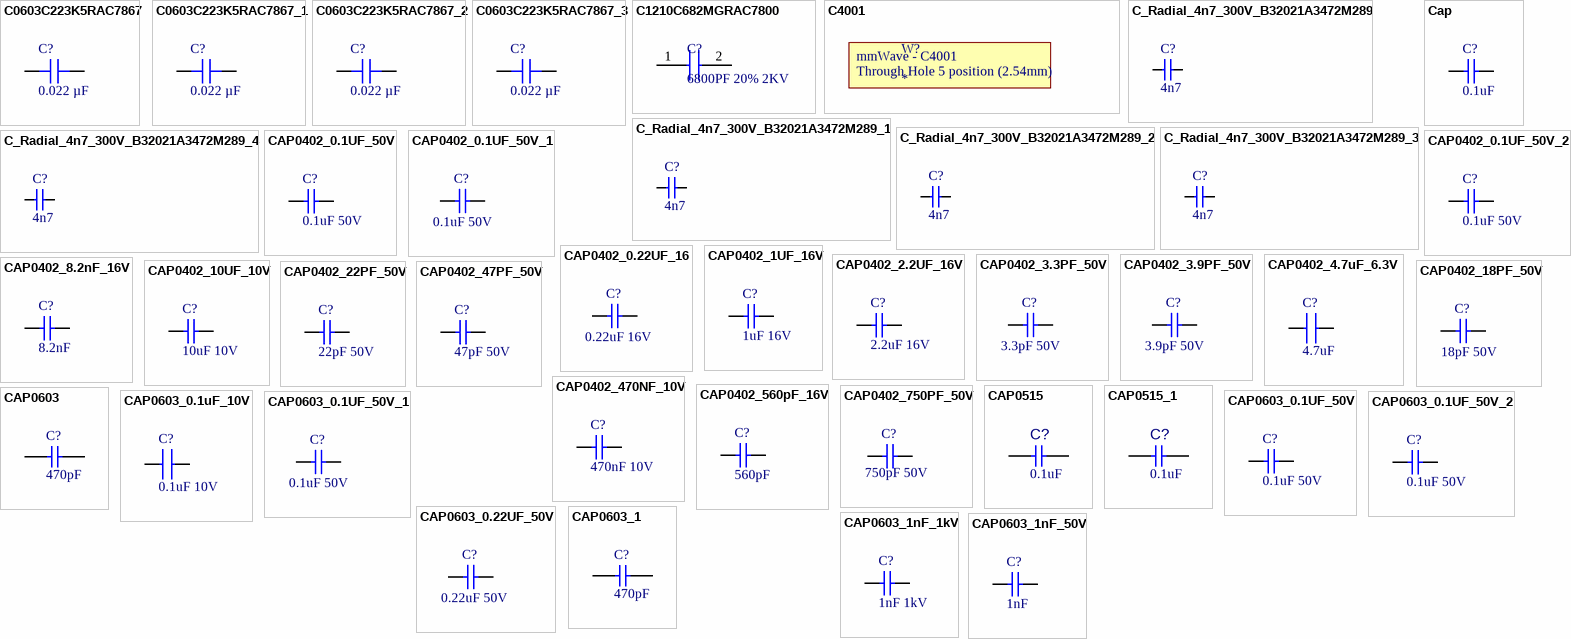
[diagram p6: symbols C0603C223K5RAC7867 to CAP0603_1nF_50V]

## C0603C223K5RAC7867
designator C?, comment 0.022 µF
CAP CER 0.022UF 50V X7R 0603; Part Number: C0603C223K5RAC7867; manufacturer: KEMET; Tolerance: ±10%; Applications: Bypass, Decoupling; Capacitance: 0.022 µF; componentlink1description: Datasheet; componentlink1url: https://api.kemet.com/component-edge/download/datasheet/C0603C223K5RACTU.pdf; componentlink2description: DigiKey Link; componentlink2url: https://www.digikey.com/en/products/detail/kemet/C0603C223K5RAC7867/416043; Device Package: 0603 (1608 Metric); lastupdated: 2/9/2024 8:09:58 PM; Lifecycle Status: Active; Minimum Order: 1; Mounting Type: Surface Mount, MLCC; Operating Temperature: -55°C ~ 125°C; Package / Case: 0603 (1608 Metric); packaging: TapeAndReel; partid: 35405; Part Status: Active; price: 0.01; series: SMD Comm X7R; Size / Dimension: 0.063" L x 0.031" W (1.60mm x 0.80mm); Supplier 1: DigiKey; Supplier Part Number 1: 399-C0603C223K5RAC7867CT-ND; Temperature Coefficient: X7R; Thickness (Max): 0.034" (0.87mm); Voltage - Rated: 50V; Value: 0.022 µF
footprint CAP 0603_1608
pins: 1, 2

## C0603C223K5RAC7867_1
designator C?, comment 0.022 µF
CAP CER 0.022UF 50V X7R 0603; Part Number: C0603C223K5RAC7867; manufacturer: KEMET; Tolerance: ±10%; Value: 0.022 µF; Applications: Bypass, Decoupling; Capacitance: 0.022 µF; componentlink1description: Datasheet; componentlink1url: https://api.kemet.com/component-edge/download/datasheet/C0603C223K5RACTU.pdf; componentlink2description: DigiKey Link; componentlink2url: https://www.digikey.com/en/products/detail/kemet/C0603C223K5RAC7867/416043; Device Package: 0603 (1608 Metric); lastupdated: 2/9/2024 8:09:58 PM; Lifecycle Status: Active; Minimum Order: 1; Mounting Type: Surface Mount, MLCC; Operating Temperature: -55°C ~ 125°C; Package / Case: 0603 (1608 Metric); packaging: TapeAndReel; partid: 35405; Part Status: Active; price: 0.01; series: SMD Comm X7R; Size / Dimension: 0.063" L x 0.031" W (1.60mm x 0.80mm); Supplier 1: DigiKey; Supplier Part Number 1: 399-C0603C223K5RAC7867CT-ND; Temperature Coefficient: X7R; Thickness (Max): 0.034" (0.87mm); Voltage - Rated: 50V
footprint CAP 0603_1608
pins: 1, 2

## C0603C223K5RAC7867_2
designator C?, comment 0.022 µF
CAP CER 0.022UF 50V X7R 0603; Part Number: C0603C223K5RAC7867; manufacturer: KEMET; Tolerance: ±10%; Value: 0.022 µF; Applications: Bypass, Decoupling; Capacitance: 0.022 µF; componentlink1description: Datasheet; componentlink1url: https://api.kemet.com/component-edge/download/datasheet/C0603C223K5RACTU.pdf; componentlink2description: DigiKey Link; componentlink2url: https://www.digikey.com/en/products/detail/kemet/C0603C223K5RAC7867/416043; Device Package: 0603 (1608 Metric); lastupdated: 2/9/2024 8:09:58 PM; Lifecycle Status: Active; Minimum Order: 1; Mounting Type: Surface Mount, MLCC; Operating Temperature: -55°C ~ 125°C; Package / Case: 0603 (1608 Metric); packaging: TapeAndReel; partid: 35405; Part Status: Active; price: 0.01; series: SMD Comm X7R; Size / Dimension: 0.063" L x 0.031" W (1.60mm x 0.80mm); Supplier 1: DigiKey; Supplier Part Number 1: 399-C0603C223K5RAC7867CT-ND; Temperature Coefficient: X7R; Thickness (Max): 0.034" (0.87mm); Voltage - Rated: 50V
footprint CAP 0603_1608
pins: 1, 2

## C0603C223K5RAC7867_3
designator C?, comment 0.022 µF
CAP CER 0.022UF 50V X7R 0603; Part Number: C0603C223K5RAC7867; manufacturer: KEMET; Tolerance: ±10%; Applications: Bypass, Decoupling; Capacitance: 0.022 µF; componentlink1description: Datasheet; componentlink1url: https://api.kemet.com/component-edge/download/datasheet/C0603C223K5RACTU.pdf; componentlink2description: DigiKey Link; componentlink2url: https://www.digikey.com/en/products/detail/kemet/C0603C223K5RAC7867/416043; Device Package: 0603 (1608 Metric); lastupdated: 2/9/2024 8:09:58 PM; Lifecycle Status: Active; Minimum Order: 1; Mounting Type: Surface Mount, MLCC; Operating Temperature: -55°C ~ 125°C; Package / Case: 0603 (1608 Metric); packaging: TapeAndReel; partid: 35405; Part Status: Active; price: 0.01; series: SMD Comm X7R; Size / Dimension: 0.063" L x 0.031" W (1.60mm x 0.80mm); Supplier 1: DigiKey; Supplier Part Number 1: 399-C0603C223K5RAC7867CT-ND; Temperature Coefficient: X7R; Thickness (Max): 0.034" (0.87mm); Voltage - Rated: 50V; Value: 0.022 µF
footprint CAP 0603_1608
pins: 1, 2

## C1210C682MGRAC7800
designator C?, comment 6800PF 20% 2KV
Cap Cer SMD 1210 6800PF 20% 2KV; Manufacturer: KEMET; Manufacturer Part Number: C1210C682MGRAC7800; Dielectric Material: 4241ConductorMaterial; Dielectric: 1511DielectricType; Supplier 1: Digikey; RoHS: No; Category: Ceramic Capacitors; Stock 1: 3000; Pricing 1: 1000=0.18921, 2000=0.17809, 5000=0.16695, 10000=0.15582, 25000=0.15026, 50000=0.14469 (USD); Voltage Rating (DC): 2kV; ComponentLink1URL: https://api.kemet.com/component-edge/download/datasheet/C1210C682MGRAC7800.pdf?src-supplier=Digikey; ComponentLink1Description: https://api.kemet.com/component-edge/download/datasheet/C1210C682MGRAC7800.pdf?src-supplier=Digikey; Supplier Part Number 1: 399-17670-2-ND
footprint CAPC3225X280N
pins: 1, 2

## C4001
designator W?
https://www.dfrobot.com/product-2793.html
footprint C4001
text: mmWave - C4001; Through Hole 5 position (2.54mm)

## C_Radial_4n7_300V_B32021A3472M289
designator C?, comment 4n7
CAP FILM 4700PF 20% 300VAC RAD; Manufacturer: EPCOS - TDK Electronics; Manufacturer Part Number: B32021A3472M289; Supplier Part Number: 495-77178-3-ND; Value: 4n7
footprint 13.0x5.0x11.0mm (B32021A3472M289)
pins: 1, 2

## C_Radial_4n7_300V_B32021A3472M289_1
designator C?, comment 4n7
CAP FILM 4700PF 20% 300VAC RAD; Manufacturer: EPCOS - TDK Electronics; Manufacturer Part Number: B32021A3472M289; Value: 4n7; Supplier Part Number: 495-77178-3-ND
footprint 13.0x5.0x11.0mm (B32021A3472M289)
pins: 1, 2

## C_Radial_4n7_300V_B32021A3472M289_2
designator C?, comment 4n7
CAP FILM 4700PF 20% 300VAC RAD; Manufacturer: EPCOS - TDK Electronics; Manufacturer Part Number: B32021A3472M289; Value: 4n7; Supplier Part Number: 495-77178-3-ND
footprint 13.0x5.0x11.0mm (B32021A3472M289)
pins: 1, 2

## C_Radial_4n7_300V_B32021A3472M289_3
designator C?, comment 4n7
CAP FILM 4700PF 20% 300VAC RAD; Manufacturer: EPCOS - TDK Electronics; Manufacturer Part Number: B32021A3472M289; Value: 4n7; Supplier Part Number: 495-77178-3-ND
footprint 13.0x5.0x11.0mm (B32021A3472M289)
pins: 1, 2

## C_Radial_4n7_300V_B32021A3472M289_4
designator C?, comment 4n7
CAP FILM 4700PF 20% 300VAC RAD; Manufacturer: EPCOS - TDK Electronics; Manufacturer Part Number: B32021A3472M289; Value: 4n7; Supplier Part Number: 495-77178-3-ND
footprint 13.0x5.0x11.0mm (B32021A3472M289)
pins: 1, 2

## Cap
designator C?, comment 0.1uF
CAP CER 0.1UF 50V X7R 0402; Manufacturer: TDK Corporation; Manufacturer Part Number: C1005X7R1H104K050BB; Value: 0.1uF; Supplier Part Number: 445-5932-1-ND
footprint 0402_C (MODIFIED BY DN_MH - 16JAN17; CHECKED BY DN_TN - 18JAN17)
pins: 1, 2